# EAGLE library part PTN36241B (library nxp_60)
PLEASE CHECK AOUT+ AND AOUT- PTN36241B is a USB 3.0 (SuperSpeed) re-driver that enhances signal quality by performing receive equalization on the deteriorated input signal followed by transmit de-emphasis maximizing system link performance. With its superior differential signal conditioning and enhancement capability, the device delivers significant flexibility and performance scaling for various systems with different PCB trace and cable channel conditions and still benefit from optimum power consumption. PTN36241B is a dual-channel (channel A and channel B) device that supports data signaling rate of 5 Gbit/s through each channel. PTN36241B is flexibly powered from 3.3 V and is available in HVQFN24 4 mm × 4 mm package with 0.5 mm pitch. AAL Eindhoven MK
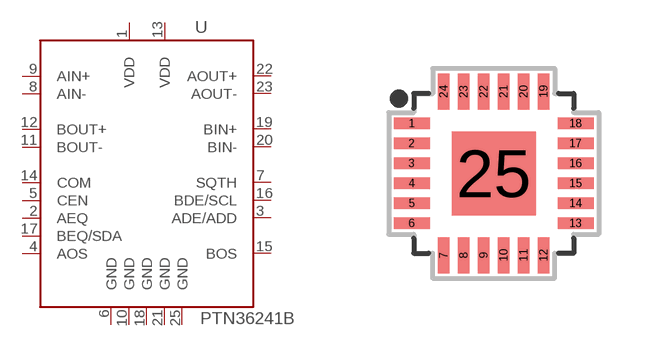
[diagram p47: symbol with the pads of SOT616; footprint SOT616]

Designator prefix U

## PTN36241B  [SOT616]
1  VDD  pwr
2  AEQ  in
3  ADE/ADD  in
4  AOS  in
5  CEN  in
6  GND  pwr
7  SQTH  in
8  AIN-  in
9  AIN+  in
10  GND  pwr
11  BOUT-  out
12  BOUT+  out
13  VDD  pwr
14  COM  in
15  BOS  in
16  BDE/SCL  in
17  BEQ/SDA  in
18  GND  pwr
19  BIN+  in
20  BIN-  in
21  GND  pwr
22  AOUT+  out
23  AOUT-  out
25  GND  pwr

## Footprint SOT616 (pad centres in mm)
SOT616 HVQFN24: plastic thermal enhanced very thin quad flat package; no leads; 24 terminals; body 4 x 4 x 0.85 mm JEDEC: MO-220 IEC: -- JEITA: --
smd 0.9 x 0.29: 1 -2.05,1.25; 2 -2.05,0.75; 3 -2.05,0.25; 4 -2.05,-0.25; 5 -2.05,-0.75; 6 -2.05,-1.25; 13 2.05,-1.25; 14 2.05,-0.75; 15 2.05,-0.25; 16 2.05,0.25; 17 2.05,0.75; 18 2.05,1.25
smd 0.29 x 0.9: 7 -1.25,-2.05; 8 -0.75,-2.05; 9 -0.25,-2.05; 10 0.25,-2.05; 11 0.75,-2.05; 12 1.25,-2.05; 19 1.25,2.05; 20 0.75,2.05; 21 0.25,2.05; 22 -0.25,2.05; 23 -0.75,2.05; 24 -1.25,2.05
smd 2.1 x 2.1: 25 0,0